# Altium footprint library Pad.PcbLib: 4 footprints
Each footprint in its own frame and in the unit in brackets; x right, y up, seen from the top. Pads: shape width x height; smd on the part's side, far side on the other; paste and mask are expansions set on the pad; w line width, h text height; cw(c..) or ccw(c..) is an arc to the next point about the centre after c.
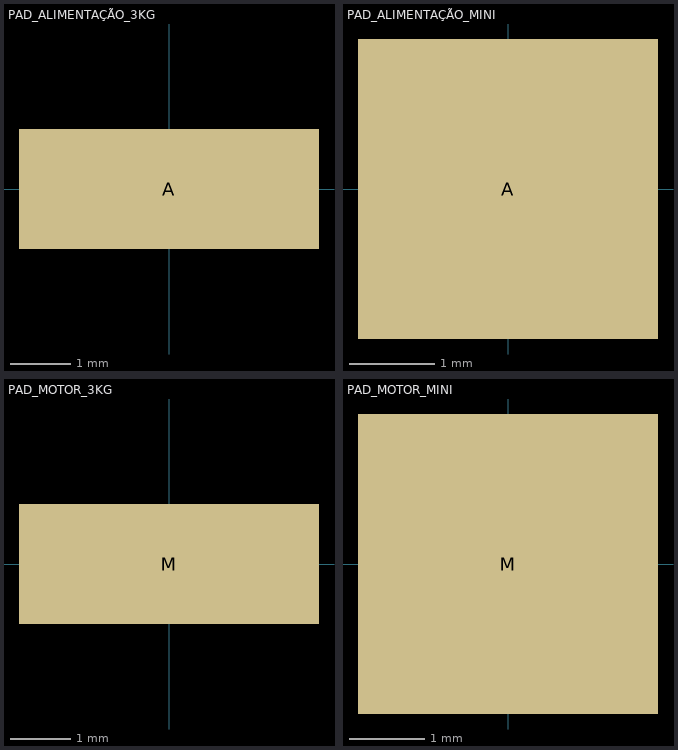
[diagram p0: the footprints below, top view; thin cyan lines are the x and y axes]

## PAD_ALIMENTAÇÃO_3KG [mm]
pads (1):
  rect 5x2 smd: A(0,0)

## PAD_ALIMENTAÇÃO_MINI [mm]
pads (1):
  rect 3.5x3.5 smd: A(0,0)

## PAD_MOTOR_3KG [mm]
pads (1):
  rect 5x2 smd: M(0,0)

## PAD_MOTOR_MINI [mm]
pads (1):
  rect 4x4 smd: M(0,0)